# Altium schematic symbol library Connectors.SchLib: 75 symbols (part 1 of 3)
Pins are listed as number, name and electrical type; pins without a type are passive.

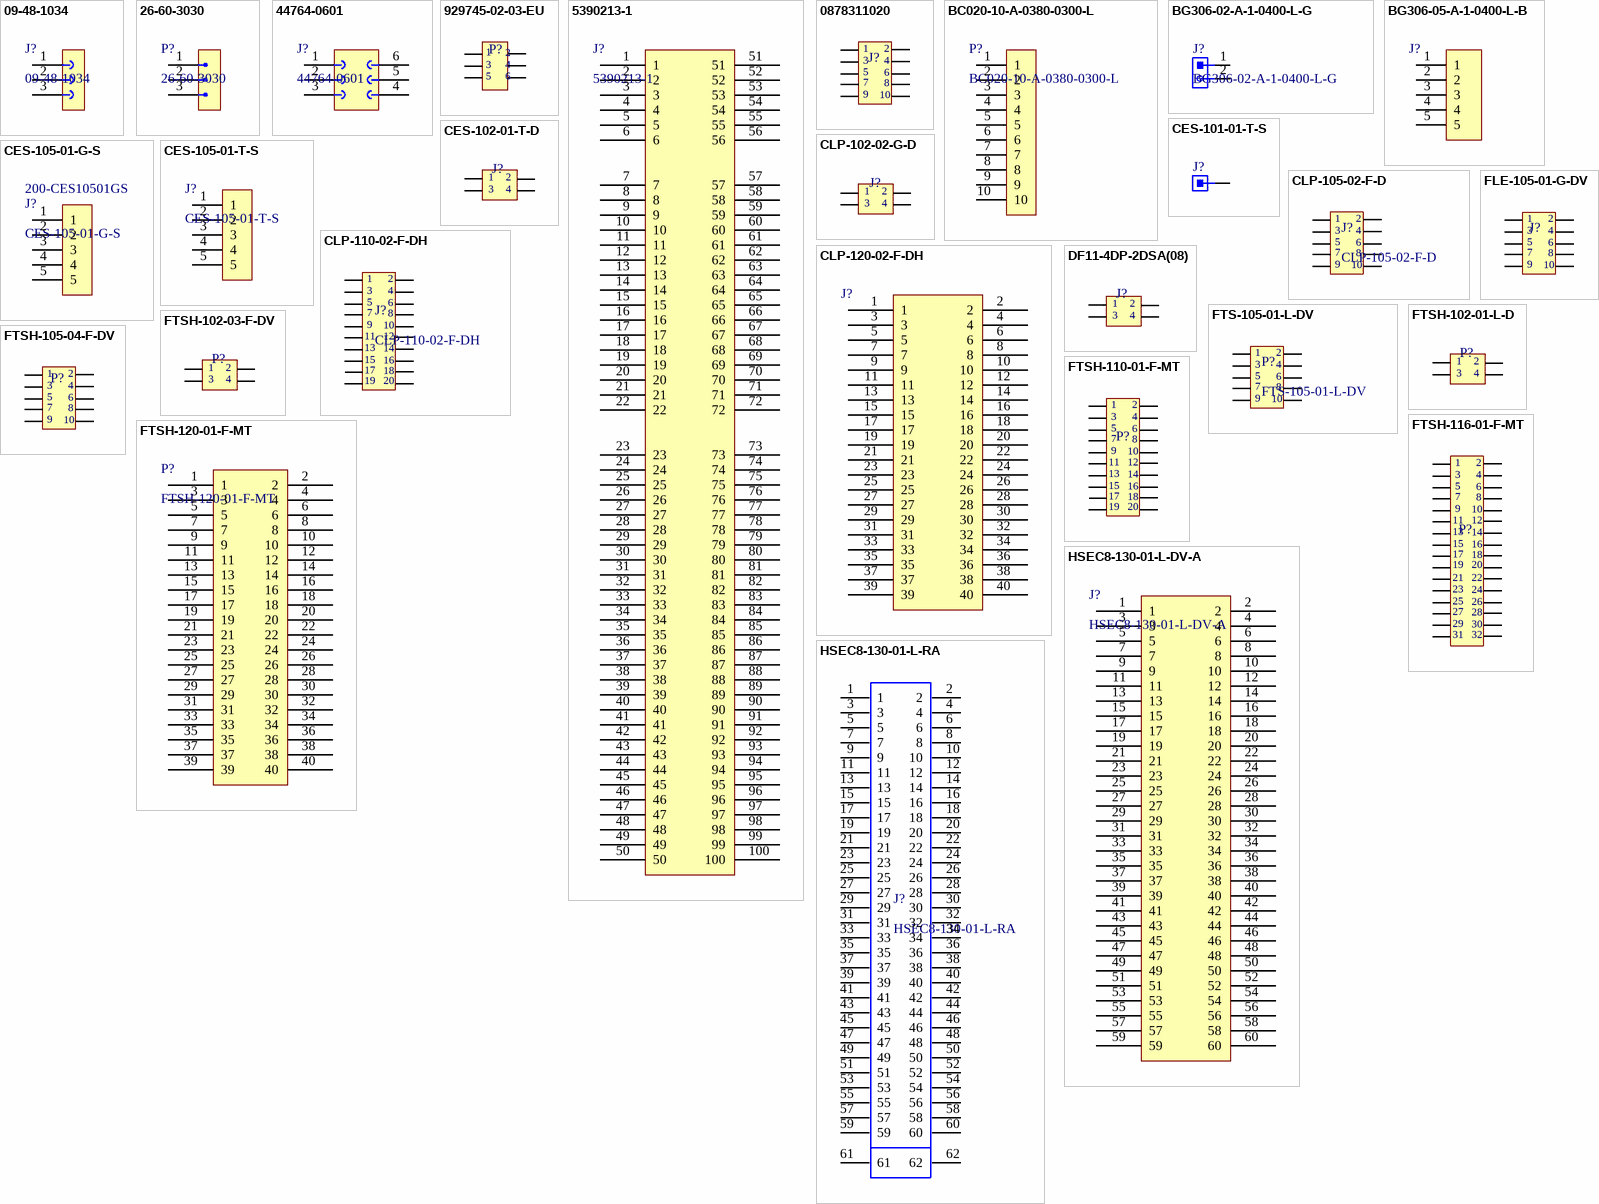
[diagram p0: symbols 09-48-1034 to HSEC8-130-01-L-RA]

## 09-48-1034
designator J?
GLOVE, POLYAMIDE, L/FREE, PU, SIZE 6 - More Details; Manufacturer: Molex; Current Rating: 5A; Voltage Rating: 250V; Contact Resistance: 6mR; Connector Type: Receptacle,Socket; Number of Positions: 3; Gender: Female; Pitch: 3.96mm; Glow Wire Compliant: Non-compliant; Manufacturer Part Number: 09-48-1034; RoHS: Yes; Category: Headers and Wire Housings; Stock 1: 2; Pricing 1: 1=0,87000, 10=0,76500, 100=0,66000, 500=0,54000, 1000=0,48000, 5000=0,42000, 10000=0,39900 (USD); Mount: Through Hole; Color: White; Contact Material: Bronze; Contact Plating: Tin; Housing Material: Polyester; Housing Color: White; Min Operating Temperature: 0°C; Max Operating Temperature: 75°C; Package Quantity: 1; Number of Rows: 1; Fastening Type: Ramp; Packaging: Bulk; Contact Gender: Female; Orientation: Right Angle; Termination: Solder; Number of Contacts: 3; Lead Free: Lead Free; Flammability Rating: UL94 V-0; Halogen Free: Not Halogen Free; ComponentLink1URL: https://datasheet.ciiva.com/745/009481024-sd-745871.pdf?src-supplier=Digi-Key; ComponentLink1Description: https://datasheet.ciiva.com/745/009481024-sd-745871.pdf?src-supplier=Digi-Key; ComponentLink2URL: https://datasheet.ciiva.com/5150/0009481034-pcb-receptacles-156434-5150628.pdf?src-supplier=Mouser; ComponentLink2Description: https://datasheet.ciiva.com/5150/0009481034-pcb-receptacles-156434-5150628.pdf?src-supplier=Mouser; ComponentLink3URL: https://datasheet.ciiva.com/30159/144440009481034-pcb-receptacles-30159914.pdf?src-supplier=Onlinecomponents.com; ComponentLink3Description: https://datasheet.ciiva.com/30159/144440009481034-pcb-receptacles-30159914.pdf?src-supplier=Onlinecomponents.com; Supplier 1: Digi-Key; Supplier 2: Newark; Supplier 3: Newark; Supplier 4: Mouser; Supplier 5: Farnell; Supplier Part Number 5: 3049434; Supplier Part Number 4: 538-09-48-1034; Supplier Part Number 3: 99AC9852; Supplier Part Number 2: 24M9928; Supplier Part Number 1: 23-0009481034-ND
footprint 09-48-1034 (KK 396 PC Board Connector, Right Angle, Polyester Connector, 5.00µm Tin (Sn), 3 Circuits)
pins: 1 (power), 2 (power), 3 (power)

## 26-60-3030
designator P?
Conn Unshrouded Header HDR 3 POS 3.96mm Solder RA Thru-Hole KK® Bag; Manufacturer: Molex; Number of Contacts: 3; Gender: Male; Contact Resistance: 6mR; Connector Type: Male Pin; Manufacturer Part Number: 26-60-3030; RoHS: Yes; Category: Headers and Wire Housings; Stock 1: 242; Pricing 1: 1=0,47000, 10=0,43800, 100=0,33560, 500=0,29180, 1000=0,24074, 5000=0,21156, 10000=0,19697 (USD); Mount: Through Hole; Contact Plating: Tin,Copper; Color: White; Contact Material: Brass; Housing Color: Natural; Housing Material: Polyester; Min Operating Temperature: 0°C; Max Operating Temperature: 75°C; Number of Rows: 1; Termination: Solder; Packaging: Bulk; Package Quantity: 8000; Number of Positions: 3; Orientation: Right Angle; Length: 11.73mm; Pitch: 3.96mm; Contact Mating Length: 0.585inch; Depth: 18.03mm; ComponentLink1URL: https://datasheet.ciiva.com/6839/026603038-sd-6839635.pdf?src-supplier=Digi-Key; ComponentLink1Description: https://datasheet.ciiva.com/6839/026603038-sd-6839635.pdf?src-supplier=Digi-Key; ComponentLink2URL: https://datasheet.ciiva.com/16468/0026603030-pcb-headers-16468946.pdf?src-supplier=Avnet+Asia; ComponentLink2Description: https://datasheet.ciiva.com/16468/0026603030-pcb-headers-16468946.pdf?src-supplier=Avnet+Asia; ComponentLink3URL: https://datasheet.ciiva.com/26921/getdatasheetpartid-754778-26921817.pdf?src-supplier=Verical; ComponentLink3Description: https://datasheet.ciiva.com/26921/getdatasheetpartid-754778-26921817.pdf?src-supplier=Verical; ComponentLink4URL: https://datasheet.ciiva.com/10089/0026603030-pcb-headers-10089991.pdf?src-supplier=Avnet; ComponentLink4Description: https://datasheet.ciiva.com/10089/0026603030-pcb-headers-10089991.pdf?src-supplier=Avnet; ComponentLink5URL: https://datasheet.ciiva.com/10028/0026603030-pcb-headers-10028122.pdf?src-supplier=Avnet; ComponentLink5Description: https://datasheet.ciiva.com/10028/0026603030-pcb-headers-10028122.pdf?src-supplier=Avnet; Supplier 1: Digi-Key; Supplier 2: Arrow; Supplier 3: Mouser; Supplier Part Number 3: 538-26-60-3030; Supplier Part Number 2: 26-60-3030; Supplier Part Number 1: WM13466-ND
footprint 26-60-3030 (KK 396 Header, Right-Angle, without Peg, 3 Circuits, Tin (Sn) Plating)
pins: 1 (power), 2 (power), 3 (power)

## 44764-0601
designator J?
MOLEX         44764-0601            PLUG & SOCKET CONNECTOR, RECEPTACLE, 6POS, 3MM; Number of Contacts: 6; Contact Resistance: 100mR; Max Voltage Rating (AC): 250V; Current Rating: 5A; Voltage Rating: 600V; Glow Wire Compliant: Non-compliant; Manufacturer: Molex; Manufacturer Part Number: 44764-0601; RoHS: Yes; Category: Headers and Wire Housings; Stock 1: 564; Pricing 1: 1=2,72000, 10=2,61300, 100=2,17720, 500=1,85062, 1000=1,57847, 5000=1,41518 (USD); Mount: Through Hole; Color: Black; Housing Color: Black; Housing Material: Polyamide; Contact Plating: Tin; Contact Material: Bronze; Min Operating Temperature: -40°C; Max Operating Temperature: 105°C; Termination: Through Hole; Number of Rows: 2; Number of Positions: 6; Orientation: Right Angle; Packaging: Tray; Gender: Receptacle; Number of Circuits: 6; Package Quantity: 1360; Pitch: 3mm; Row Spacing: 3mm; Radiation Hardening: No; Halogen Free: Low Halogen; Lead Free: Lead Free; ComponentLink1URL: https://datasheet.ciiva.com/10086/0447640601-pcb-receptacles-10086368.pdf?src-supplier=Avnet; ComponentLink1Description: https://datasheet.ciiva.com/10086/0447640601-pcb-receptacles-10086368.pdf?src-supplier=Avnet; ComponentLink2URL: https://datasheet.ciiva.com/36179/104790447640601-pcb-receptacles-36179666.pdf?src-supplier=Onlinecomponents.com; ComponentLink2Description: https://datasheet.ciiva.com/36179/104790447640601-pcb-receptacles-36179666.pdf?src-supplier=Onlinecomponents.com; ComponentLink3URL: https://datasheet.ciiva.com/5154/0447640601-pcb-receptacles-146016-5154396.pdf?src-supplier=Mouser; ComponentLink3Description: https://datasheet.ciiva.com/5154/0447640601-pcb-receptacles-146016-5154396.pdf?src-supplier=Mouser; Supplier 1: Digi-Key; Supplier 2: Newark; Supplier 3: Mouser; Supplier 4: Farnell; Supplier Part Number 4: 3051467; Supplier Part Number 3: 538-44764-0601; Supplier Part Number 2: 01AH8459; Supplier Part Number 1: WM1982-ND
footprint 447640601 (Micro-Fit BMI Receptacle Header, Dual Row, Right-Angle, with Press-fit Plastic Pegs, 2.54µm Tin (Sn), 6 Circuits)
pins: 1 (power), 2 (power), 3 (power), 4 (power), 5 (power), 6 (power)

## 929745-02-03-EU
designator P?  (value not drawn)
Headers & Wire Housings 6/PS/2R/RA.318-.405 ALL 10U/ROHS; Manufacturer: 3M; Connector Type: Male Pin; Number of Positions: 6; Gender: Male; Pitch: 0.1inch; Supplier 1: Digi-Key; Manufacturer Part Number: 929745-02-03-EU; RoHS: Yes; Category: Headers and Wire Housings; Stock 1: 298; Pricing 1: 1=1.14000, 10=1.00000, 25=0.94080, 50=0.90160, 100=0.86240, 250=0.78400, 500=0.70560 (USD); Mount: Through Hole; Contact Plating: Gold; Color: Black; Number of Rows: 2; Packaging: Bulk; Termination: Solder; Package Quantity: 1000; Row Spacing: 0.1inch; Contact Mating Length: 0.318inch; ComponentLink1URL: https://datasheet.ciiva.com/13596/ts0769-13596999.pdf?src-supplier=Mouser; ComponentLink1Description: https://datasheet.ciiva.com/13596/ts0769-13596999.pdf?src-supplier=Mouser; ComponentLink2URL: https://datasheet.ciiva.com/6825/ts0769-6825433.pdf?src-supplier=Digi-Key; ComponentLink2Description: https://datasheet.ciiva.com/6825/ts0769-6825433.pdf?src-supplier=Digi-Key; Supplier Part Number 1: 3M156383-06-ND
footprint 929745-02-03-EU
pins: 1, 2, 3, 4, 5, 6

## 5390213-1
designator J?
100 Position DIMM DRAM Socket Through Hole; Centerline_Pitch: 1.27 mm[.05 in]; MF: TE Connectivity; Number_of_Positions: 100; SnapEDA_Link: https://www.snapeda.com/parts/5390213-1/TE%20Connectivity%20AMP%20Connectors/view-part/781316/?ref=snap; MP: 5390213-1; TE_purchase_URL: https://www.te.com/usa-en/product-5390213-1.html?te_bu=Cor&te_type=disp&te_campaign=seda_glo_cor-seda-global-disp-prtnr-fy19-seda-model-bom-cta_sma-317_1&elqCampaignId=32493; Availability: Unavailable; EU_RoHS_Compliance: Compliant; Price: None; Product_Type: Socket; Package: None; Value: *; Supplier 1: Newark; Supplier 2: Digi-Key; Supplier 3: Mouser; Supplier Part Number 1: 42K7163; Supplier Part Number 2: A121375-ND; Supplier Part Number 3: 571-5390213-1
footprint TE_5390213-1
pins: 1 (power), 2 (power), 3 (power), 4 (power), 5 (power), 6 (power), 7 (power), 8 (power), 9 (power), 10 (power), 11 (power), 12 (power), 13 (power), 14 (power), 15 (power), 16 (power), 17 (power), 18 (power), 19 (power), 20 (power), 21 (power), 22 (power), 23 (power), 24 (power), 25 (power), 26 (power), 27 (power), 28 (power), 29 (power), 30 (power), 31 (power), 32 (power), 33 (power), 34 (power), 35 (power), 36 (power), 37 (power), 38 (power), 39 (power), 40 (power), 41 (power), 42 (power), 43 (power), 44 (power), 45 (power), 46 (power), 47 (power), 48 (power), 49 (power), 50 (power), 51 (power), 52 (power), 53 (power), 54 (power), 55 (power), 56 (power), 57 (power), 58 (power), 59 (power), 60 (power), 61 (power), 62 (power), 63 (power), 64 (power), 65 (power), 66 (power), 67 (power), 68 (power), 69 (power), 70 (power), 71 (power), 72 (power), 73 (power), 74 (power), 75 (power), 76 (power), 77 (power), 78 (power), 79 (power), 80 (power), 81 (power), 82 (power), 83 (power), 84 (power), 85 (power), 86 (power), 87 (power), 88 (power), 89 (power), 90 (power), 91 (power), 92 (power), 93 (power), 94 (power), 95 (power), 96 (power), 97 (power), 98 (power), 99 (power), 100 (power)

## 0878311020
designator J?  (value not drawn)
Conn Shrouded Header HDR 10 POS 2mm Solder ST Thru-Hole Milli-Grid™ Tube; Manufacturer: Molex; Number of Positions: 10; Connector Type: Male Pin; Row Spacing: 0.079inch; Supplier 1: Digi-Key; Manufacturer Part Number: 0878311020; RoHS: Yes; Category: Headers and Wire Housings; Stock 1: 7937; Pricing 1: 1=1.65000, 10=1.50100, 100=1.28650, 500=1.07206, 1000=0.91890, 5000=0.81476, 10000=0.79638 (USD); Mount: Through Hole; Contact Plating: Gold; Contact Material: Bronze; Color: Black; Housing Material: Nylon; Housing Color: Black; Min Operating Temperature: -55°C; Max Operating Temperature: 105°C; Termination: Solder; Number of Contacts: 10; Number of Rows: 2; Packaging: Rail/Tube; Orientation: Straight; Length: 12.65mm; Pitch: 2mm; Contact Mating Length: 0.141inch; Depth: 6.3mm; Radiation Hardening: No; ComponentLink1URL: https://datasheet.ciiva.com/6814/878311620-sd-6814006.pdf?src-supplier=Digi-Key; ComponentLink1Description: https://datasheet.ciiva.com/6814/878311620-sd-6814006.pdf?src-supplier=Digi-Key; Supplier Part Number 1: WM18560-ND
footprint 0878311020
pins: 1, 2, 3, 4, 5, 6, 7, 8, 9, 10

## BC020-10-A-0380-0300-L
designator P?
BOARD-BOARD CONNECTOR, HEADER, 10WAY, 1ROW; Product Range:BC020 Series; Contact Termination Type:Through Hole; Gender:Header; No. of Contacts:10; Pitch Spacing:1mm; Contact Plating:Gold Plated Contacts; Contact Material:Copper Alloy ;RoHS Compliant: Yes; Manufacturer: Global Connector Technology; Gender: Male; Number of Contacts: 10; Manufacturer Part Number: BC020-10-A-0380-0300-L; RoHS: Yes; Category: Connectors; Stock 1: 1113; Pricing 1: 1=0,66300, 10=0,66300, 25=0,66300, 50=0,66300, 100=0,66300, 250=0,66300, 500=0,66300, 1000=0,66300 (USD); Mount: Through Hole; Contact Plating: Gold; Contact Material: Copper Alloy; Termination: Through Hole; Number of Rows: 1; REACH SVHC: No SVHC; ComponentLink1URL: http://www.farnell.com/datasheets/2342914.pdf?src-supplier=Farnell; ComponentLink1Description: http://www.farnell.com/datasheets/2342914.pdf?src-supplier=Farnell; ComponentLink2URL: http://www.farnell.com/datasheets/682675.pdf?src-supplier=Farnell; ComponentLink2Description: http://www.farnell.com/datasheets/682675.pdf?src-supplier=Farnell; ComponentLink3URL: http://www.farnell.com/datasheets/682675.pdf?src-supplier=Element14; ComponentLink3Description: http://www.farnell.com/datasheets/682675.pdf?src-supplier=Element14; Supplier 1: Newark; Supplier 2: Farnell; Supplier 3: Newark; Supplier Part Number 1: 67R6873; Supplier Part Number 2: 2577320; Supplier Part Number 3: 42AC9863
footprint BC020-10-A-0380-0300-L (Pin Header, Board-to-Board, 1 mm, 1 Rows, 10 Contacts, Through Hole Straight, BC020 Series)
pins: 1, 2, 3, 4, 5, 6, 7, 8, 9, 10

## BG306-02-A-1-0400-L-G
designator J?
GLOBAL CONNECTOR TECHNOLOGY         BG306-02-A-1-0400-L-G.             CONNECTOR, SOCKET, 2 POSITION, 1 ROW, 2.54MM; Gender: Receptacle; Number of Positions: 2; Manufacturer: Global Connector Technology; Manufacturer Part Number: BG306-02-A-1-0400-L-G; RoHS: Yes; Category: Connectors; Stock 1: 10; Pricing 1: 1=0,42900, 10=0,36500, 25=0,34300, 50=0,32200, 100=0,30000, 250=0,27900 (GBP); Mount: Surface Mount; Contact Plating: Gold; Contact Material: Bronze; Number of Rows: 1; Termination: SMD/SMT; Number of Contacts: 2; Pitch: 2.54mm; Lead Free: Lead Free; REACH SVHC: No SVHC; ComponentLink1URL: https://datasheet.ciiva.com/16288/bg306-02-a-1-0400-l-g-16288319.pdf?src-supplier=Future+Electronics; ComponentLink1Description: https://datasheet.ciiva.com/16288/bg306-02-a-1-0400-l-g-16288319.pdf?src-supplier=Future+Electronics; ComponentLink2URL: https://datasheet.ciiva.com/46431/1841849-46431772.pdf?src-supplier=Element14; ComponentLink2Description: https://datasheet.ciiva.com/46431/1841849-46431772.pdf?src-supplier=Element14; Supplier 1: Farnell; Supplier 2: Farnell; Supplier 3: Newark; Supplier Part Number 3: 07W3654; Supplier Part Number 2: 2443087; Supplier Part Number 1: 2147512; System: Connector
footprint BG306-02-A-1-0400-L-G (2 Position Receptacle Connector Surface Mount)
pins: 1, 2

## BG306-05-A-1-0400-L-B
designator J?  (value not drawn)
GLOBAL CONNECTOR TECHNOLOGY         BG306-05-A-1-0400-L-B.             CONNECTOR, SOCKET, 5POS, 1 ROW, 2.54MM; Number of Positions: 5; Gender: Receptacle; Supplier 1: Newark; Manufacturer: Global Connector Technology; Manufacturer Part Number: BG306-05-A-1-0400-L-B; RoHS: Yes; Category: Connectors; Pricing 1: 1200=0.54100 (USD); Mount: Surface Mount; Contact Plating: Gold; Contact Material: Bronze; Number of Rows: 1; Termination: SMD/SMT; Number of Contacts: 5; Pitch: 2.54mm; Lead Free: Lead Free; REACH SVHC: No SVHC; ComponentLink1URL: https://datasheet.ciiva.com/46431/1841849-46431775.pdf?src-supplier=Element14; ComponentLink1Description: https://datasheet.ciiva.com/46431/1841849-46431775.pdf?src-supplier=Element14; Supplier Part Number 1: 07W3657; Supplier 2: Digi-Key; Stock 2: 2132; Pricing 2: 1=1.170000, 10=1.032000, 100=0.890600, 500=0.728640 (USD); Supplier Part Number 2: 2073-BG306-05-A-1-0400-L-BCT-ND; Supplier 3: Digi-Key; Stock 3: 1200; Pricing 3: 1200=0.588800, 2400=0.533600, 6000=0.515200, 8400=0.489440, 12000=0.478400 (USD); Supplier Part Number 3: 2073-BG306-05-A-1-0400-L-BTR-ND
footprint BG306-05-A-1-0400-L-B
pins: 1, 2, 3, 4, 5

## CES-101-01-T-S
designator J?  (value not drawn)
Conn Socket Strip SKT 1 POS Solder ST Thru-Hole; Manufacturer: Samtec; Connector Type: Receptacle; Number of Positions: 1; System: Connector; Supplier 1: Digi-Key; Manufacturer Part Number: CES-101-01-T-S; RoHS: Yes; Category: Connectors; Stock 1: 3369; Pricing 1: 1=0.18000, 10=0.16800, 25=0.12520, 50=0.10720, 100=0.10370, 250=0.08940, 500=0.08582 (USD); Mount: Through Hole; Color: Black; Contact Plating: Tin; Contact Material: Bronze; Housing Material: Plastic; Housing Color: Black; Number of Rows: 1; Packaging: Bulk; Termination: Solder; Gender: Receptacle; Number of Contacts: 1; Package Quantity: 1; Length: 2.54mm; Height: 5.08mm; Width: 3.05mm; Radiation Hardening: No; Lead Free: Lead Free; REACH SVHC: No SVHC; ComponentLink1URL: https://datasheet.ciiva.com/413/ces-mkt-413326.pdf?src-supplier=Digi-Key; ComponentLink1Description: https://datasheet.ciiva.com/413/ces-mkt-413326.pdf?src-supplier=Digi-Key; Supplier Part Number 1: SAM1087-01-ND; Supplier 2: Mouser; Stock 2: 2680; Pricing 2: 1=0.18000, 10=0.11100, 100=0.08800, 1000=0.06700, 2500=0.06000, 10000=0.05300 (USD); Supplier Part Number 2: 200-CES10101TS; Supplier 3: Farnell; Pricing 3: 10=0.12800, 750=0.05720, 2500=0.05170, 5000=0.04640 (GBP); Supplier Part Number 3: 1803164
footprint CES-101-01-T-S
pins: 1

## CES-102-01-T-D
designator J?  (value not drawn)
CES - Samtec 2.54mm Closed Entry Low Profile Dual Row Socket Strip 4.57mm Profile; Number of Contacts: 4; Connector Type: Receptacle; Max Current Rating: 1A; Contact Resistance: 10mR; Max Voltage Rating (AC): 400V; Voltage Rating: 333V; Row Spacing: 0.1inch; Supplier 1: Digi-Key; Manufacturer: Samtec; Manufacturer Part Number: CES-102-01-T-D; RoHS: Yes; Category: Connectors; Stock 1: 1670; Pricing 1: 1=0.45000, 10=0.42700, 25=0.36560, 50=0.31080, 100=0.29870, 250=0.26824, 500=0.25604 (USD); Mount: Through Hole; Contact Plating: Tin; Housing Material: Polyester; Contact Material: Bronze; Color: Black; Housing Color: Black; Min Operating Temperature: -55°C; Max Operating Temperature: 105°C; Termination: Solder; Number of Rows: 2; Number of Positions: 4; Gender: Receptacle; Packaging: Bulk; Package Quantity: 1; Orientation: Straight; Current Rating: 1A; Length: 5.08mm; Pitch: 2.54mm; Depth: 5.59mm; Radiation Hardening: No; Lead Free: Lead Free; REACH SVHC: No SVHC; ComponentLink1URL: https://datasheet.ciiva.com/25617/0900766b8114b763-25617374.pdf?src-supplier=RSComponents; ComponentLink1Description: https://datasheet.ciiva.com/25617/0900766b8114b763-25617374.pdf?src-supplier=RSComponents; ComponentLink2URL: https://datasheet.ciiva.com/413/ces-dmkt-413366.pdf?src-supplier=Digi-Key; ComponentLink2Description: https://datasheet.ciiva.com/413/ces-dmkt-413366.pdf?src-supplier=Digi-Key; Supplier Part Number 1: SAM1086-02-ND; Supplier 2: Arrow; Stock 2: 1; Pricing 2: 1=0.42570, 10=0.30350, 100=0.25310, 1000=0.24710 (USD); Supplier 3: Mouser; Stock 3: 1759; Pricing 3: 1=0.47000, 10=0.32300, 100=0.26600, 1000=0.22200, 2500=0.19000, 10000=0.17100 (USD); Supplier Part Number 2: CES-102-01-T-D; Supplier Part Number 3: 200-CES10201TD
footprint CES-102-01-T-D
pins: 1, 2, 3, 4

## CES-105-01-G-S
designator J?  Supplier Part Number 1: 200-CES10501GS
SAMTEC   CES-105-01-G-S   Board-To-Board Connector, CES Series, Through Hole, Receptacle, 5 Contacts, 2.54 mm; Number of Contacts: 5; Max Current Rating: 1A; Contact Resistance: 10mR; Max Voltage Rating (AC): 333V; Pitch: 2.54mm; Supplier 1: Mouser; Manufacturer: Samtec; Manufacturer Part Number: CES-105-01-G-S; RoHS: Yes; Category: Headers and Wire Housings; Stock 1: 2084; Pricing 1: 1=1,36000, 10=1,10000, 100=0,98500, 250=0,92100, 500=0,79500, 1000=0,69300 (USD); Contact Plating: Gold; Housing Material: Polyester; Housing Color: Black; Contact Material: Bronze; Min Operating Temperature: -55°C; Max Operating Temperature: 125°C; Number of Rows: 1; Termination: Solder; Orientation: Straight; Packaging: Rail/Tube; Gender: Receptacle; Length: 12.7mm; Depth: 3.05mm; Radiation Hardening: No; REACH SVHC: No SVHC; ComponentLink1URL: http://components.arrow.com/part/dataview/0323_04286384?src-supplier=Arrow+Europe; ComponentLink1Description: http://components.arrow.com/part/dataview/0323_04286384?src-supplier=Arrow+Europe; ComponentLink2URL: http://components.arrow.com/part/dataview/2766982S8146916N1004?src-supplier=Arrow; ComponentLink2Description: http://components.arrow.com/part/dataview/2766982S8146916N1004?src-supplier=Arrow; ComponentLink3URL: http://www.farnell.com/datasheets/1796415.pdf?src-supplier=Farnell; ComponentLink3Description: http://www.farnell.com/datasheets/1796415.pdf?src-supplier=Farnell; ComponentLink4URL: http://suddendocs.samtec.com/prints/ces-s.pdf?src-supplier=Digi-Key; ComponentLink4Description: http://suddendocs.samtec.com/prints/ces-s.pdf?src-supplier=Digi-Key; ComponentLink5URL: http://www.samtec.com/documents/webfiles/pdf/CES.pdf?src-supplier=Avnet+Europe; ComponentLink5Description: http://www.samtec.com/documents/webfiles/pdf/CES.pdf?src-supplier=Avnet+Europe; ComponentLink6URL: http://www.samtec.com/documents/webfiles/pdf/CES.pdf?src-supplier=Avnet; ComponentLink6Description: http://www.samtec.com/documents/webfiles/pdf/CES.pdf?src-supplier=Avnet
pins: 1, 2, 3, 4, 5

## CES-105-01-T-S
designator J?
SAMTEC         CES-105-01-T-S             Board-To-Board Connector, CES Series, 5 Contacts, Receptacle, 2.54 mm, Through Hole, 1 Rows; Number of Contacts: 5; Contact Resistance: 10mR; Max Current Rating: 1A; Max Voltage Rating (AC): 400V; Pitch: 2.54mm; Manufacturer: Samtec; Manufacturer Part Number: CES-105-01-T-S; RoHS: Yes; Category: Connectors; Stock 1: 235; Pricing 1: 1=0,57000, 10=0,53600, 25=0,48280, 50=0,42920, 100=0,41120, 250=0,37548, 500=0,35760 (USD); Mount: Through Hole; Contact Plating: Tin; Housing Color: Black; Contact Material: Bronze; Color: Black; Housing Material: Polyester; Min Operating Temperature: -55°C; Max Operating Temperature: 105°C; Number of Rows: 1; Termination: Solder; Orientation: Straight; Packaging: Bulk; Package Quantity: 1; Connector Type: Receptacle; Number of Positions: 5; Gender: Receptacle; Length: 12.7mm; Depth: 3.05mm; Width: 3.05mm; Radiation Hardening: No; Lead Free: Lead Free; REACH SVHC: No SVHC; ComponentLink1URL: https://datasheet.ciiva.com/413/ces-mkt-413356.pdf?src-supplier=Digi-Key; ComponentLink1Description: https://datasheet.ciiva.com/413/ces-mkt-413356.pdf?src-supplier=Digi-Key; Supplier 1: Digi-Key; Supplier 2: Arrow; Supplier 3: Mouser; Supplier 4: Newark; Supplier Part Number 2: CES-105-01-T-S; Supplier Part Number 3: 200-CES10501TS; Supplier Part Number 4: 11P3506; Supplier Part Number 1: SAM1087-05-ND
footprint CES-105-01-T-S (Headers & Wire Housings .100" Closed Entry Low Profile Socket Strip - SAMTEC)
pins: 1, 2, 3, 4, 5

## CLP-102-02-G-D
designator J?  (value not drawn)
SAMTEC         CLP-102-02-G-D             Board-To-Board Connector, Vertical, CLP Series, 4 Contacts, Receptacle, 1.27 mm, Surface Mount; Number of Contacts: 4; Contact Resistance: 10mR; Max Current Rating: 1.75A; Pitch: 1.27mm; Row Spacing: 0.05inch; Supplier 1: Digi-Key; Manufacturer: Samtec; Manufacturer Part Number: CLP-102-02-G-D; RoHS: Yes; Category: Headers and Wire Housings; Stock 1: 2036; Pricing 1: 1=0.80000, 10=0.70400, 25=0.66240, 50=0.63480, 100=0.60720, 250=0.55200, 500=0.49680 (USD); Mount: Surface Mount; Contact Plating: Gold; Contact Material: Bronze; Housing Color: Black; Housing Material: Polymer; Color: Black; Min Operating Temperature: -55°C; Max Operating Temperature: 125°C; Number of Rows: 2; Termination: Solder; Packaging: Bulk; Orientation: Straight; Gender: Receptacle; Connector Type: Receptacle; Number of Positions: 4; Length: 2.97mm; Depth: 3.05mm; Radiation Hardening: No; REACH SVHC: No SVHC; Lead Free: Lead Free; ComponentLink1URL: https://datasheet.ciiva.com/413/clp-dmkt-413777.pdf?src-supplier=Digi-Key; ComponentLink1Description: https://datasheet.ciiva.com/413/clp-dmkt-413777.pdf?src-supplier=Digi-Key; ComponentLink2URL: https://datasheet.ciiva.com/9532/clp-sm-9532378.pdf?src-supplier=Avnet; ComponentLink2Description: https://datasheet.ciiva.com/9532/clp-sm-9532378.pdf?src-supplier=Avnet; ComponentLink3URL: https://datasheet.ciiva.com/16690/clp-sm-16690075.pdf?src-supplier=Avnet+Europe; ComponentLink3Description: https://datasheet.ciiva.com/16690/clp-sm-16690075.pdf?src-supplier=Avnet+Europe; Supplier Part Number 1: SAM1154-02-ND; Supplier 2: Arrow; Stock 2: 10; Pricing 2: 1=0.75640, 1=0.80000, 6250=0.67790, 12500=0.58820, 62500=0.50990, 125000=0.48130 (USD); Supplier Part Number 2: CLP-102-02-G-D; Supplier 3: Mouser; Stock 3: 752; Pricing 3: 1=1.38000, 10=1.12000, 100=0.99000, 250=0.93400, 500=0.80600, 1000=0.70200 (USD); Supplier Part Number 3: 200-CLP10202GD
footprint CLP-102-02-G-D
pins: 1, 2, 3, 4

## CLP-105-02-F-D
designator J?
Conn Socket Strip SKT 10 POS 1.27mm Solder ST SMD Tube; Manufacturer: Samtec; Number of Contacts: 10; Gender: Receptacle; Contact Resistance: 10mR; Max Current Rating: 1.75A; Row Spacing: 0.05inch; Supplier 1: Digi-Key; Manufacturer Part Number: CLP-105-02-F-D; RoHS: Yes; Category: Headers and Wire Housings; Stock 1: 1862; Pricing 1: 1=1.49000, 10=1.34900, 25=1.26680, 50=1.21180, 100=1.15670, 250=1.04652, 500=0.96390 (USD); Mount: Surface Mount; Contact Plating: Gold; Contact Material: Bronze; Housing Material: Polymer; Housing Color: Black; Color: Black; Min Operating Temperature: -55°C; Max Operating Temperature: 125°C; Number of Rows: 2; Packaging: Bulk; Termination: Solder; Orientation: Straight; Connector Type: Receptacle; Number of Positions: 10; Length: 6.78mm; Pitch: 1.27mm; Depth: 3.05mm; Width: 3.05mm; Radiation Hardening: No; Lead Free: Lead Free; REACH SVHC: No SVHC; ComponentLink1URL: https://datasheet.ciiva.com/5916/clp-sm-5916171.pdf?src-supplier=Farnell; ComponentLink1Description: https://datasheet.ciiva.com/5916/clp-sm-5916171.pdf?src-supplier=Farnell; ComponentLink2URL: https://datasheet.ciiva.com/413/clp-dmkt-413781.pdf?src-supplier=Digi-Key; ComponentLink2Description: https://datasheet.ciiva.com/413/clp-dmkt-413781.pdf?src-supplier=Digi-Key; ComponentLink3URL: https://datasheet.ciiva.com/16690/clp-sm-16690022.pdf?src-supplier=Avnet+Europe; ComponentLink3Description: https://datasheet.ciiva.com/16690/clp-sm-16690022.pdf?src-supplier=Avnet+Europe; ComponentLink4URL: https://datasheet.ciiva.com/9532/clp-sm-9532381.pdf?src-supplier=Avnet; ComponentLink4Description: https://datasheet.ciiva.com/9532/clp-sm-9532381.pdf?src-supplier=Avnet; Supplier Part Number 1: SAM1153-05-ND; Supplier 2: Mouser; Stock 2: 1991; Pricing 2: 1=1.78000, 10=1.45000, 100=1.29000, 250=1.21000, 500=1.04000, 1000=0.91000 (USD); Supplier Part Number 2: 200-CLP10502FD; Supplier 3: Arrow; Stock 3: 75; Pricing 3: 1=1.39160, 10=1.17190, 100=1.06330, 250=0.99320 (USD); Supplier Part Number 3: CLP-105-02-F-D
footprint CLP-105-02-F-D
pins: 1, 2, 3, 4, 5, 6, 7, 8, 9, 10

## CLP-110-02-F-DH
designator J?
Conn Socket Strip SKT 20 POS 1.27mm Solder RA SMD Automotive Tube; Manufacturer: Samtec; Number of Contacts: 20; Gender: Receptacle; Contact Resistance: 10mR; Supplier 1: Digi-Key; Manufacturer Part Number: CLP-110-02-F-DH; RoHS: Yes; Category: Headers and Wire Housings; Stock 1: 409; Pricing 1: 1=4.15000, 10=3.98400, 100=3.32000, 500=2.82200, 1000=2.40700 (USD); Contact Plating: Gold; Housing Color: Black; Contact Material: Bronze; Housing Material: Polymer; Min Operating Temperature: -55°C; Max Operating Temperature: 125°C; Number of Rows: 2; Termination: Solder; Packaging: Rail/Tube; Orientation: Right Angle; Length: 13.13mm; Pitch: 1.27mm; Depth: 4.57mm; Radiation Hardening: No; Lead Free: Lead Free; REACH SVHC: No SVHC; ComponentLink1URL: https://datasheet.ciiva.com/9939/clp-sm-9939580.pdf?src-supplier=Avnet; ComponentLink1Description: https://datasheet.ciiva.com/9939/clp-sm-9939580.pdf?src-supplier=Avnet; Supplier Part Number 1: SAM12489-ND; Supplier 2: Mouser; Stock 2: 24; Pricing 2: 1=4.15000, 10=3.48000, 100=3.03000, 250=2.62000, 500=2.42000, 1000=2.22000 (USD); Supplier Part Number 2: 200-CLP11002FDH; Supplier 3: Arrow; Supplier Part Number 3: CLP-110-02-F-DH
footprint CLP-110-02-F-DH
pins: 1, 1, 2, 3, 4, 5, 6, 7, 8, 9, 10, 12, 13, 14, 15, 16, 17, 18, 19, 20
text: 11

## CLP-120-02-F-DH
designator J?  (value not drawn)
SAMTEC         CLP-120-02-F-DH             Board-To-Board Connector, Vertical, CLP Series, 40 Contacts, Receptacle, 1.27 mm, Surface Mount; Number of Contacts: 40; Pitch: 1.27mm; Supplier 1: Mouser; Manufacturer: Samtec; Manufacturer Part Number: CLP-120-02-F-DH; RoHS: Yes; Category: Headers and Wire Housings; Stock 1: 30; Pricing 1: 1=6.74000, 10=5.62000, 100=4.78000, 250=4.26000, 500=3.93000, 1000=3.68000 (USD); Mount: Surface Mount; Contact Plating: Gold; Contact Material: Bronze; Termination: Solder; Number of Rows: 2; Gender: Receptacle; Lead Free: Lead Free; REACH SVHC: No SVHC; ComponentLink1URL: http://www.farnell.com/datasheets/1902564.pdf?src-supplier=Farnell; ComponentLink1Description: http://www.farnell.com/datasheets/1902564.pdf?src-supplier=Farnell; ComponentLink2URL: http://cloud.samtec.com/catalog_english/clp_sm.pdf?src-supplier=Avnet; ComponentLink2Description: http://cloud.samtec.com/catalog_english/clp_sm.pdf?src-supplier=Avnet; Supplier Part Number 1: 200-CLP12002FDH; Supplier 2: Digi-Key; Pricing 2: 1=6.46000 (USD); Supplier Part Number 2: CLP-120-02-F-DH-ND
footprint CLP-120-02-F-DH
pins: 1, 2, 3, 4, 5, 6, 7, 8, 9, 10, 11, 12, 13, 14, 15, 16, 17, 18, 19, 20, 21, 22, 23, 24, 25, 26, 27, 28, 29, 30, 31, 32, 33, 34, 35, 36, 37, 38, 39, 40

## DF11-4DP-2DSA(08)
designator J?  (value not drawn)
Headers & Wire Housings 2MM V PCB HEADER 4P DR THRU-HOLE TIN; Manufacturer: Hirose; Number of Contacts: 4; Gender: Male; Connector Type: Male Pin; Current Rating: 2A; Insulation Resistance: 1GR; Voltage Rating: 250V; Contact Resistance: 30mR; Row Spacing: 0.079inch; Supplier 1: Digi-Key; Manufacturer Part Number: DF11-4DP-2DSA(08); RoHS: Yes; Category: Headers and Wire Housings; Stock 1: 1353; Pricing 1: 1=0.23000, 10=0.21400, 100=0.14820, 500=0.12540, 1000=0.10260, 5000=0.09120, 10000=0.08265 (USD); Mount: Through Hole; Contact Plating: Tin; Housing Color: Black; Housing Material: Polyamide; Color: Black; Contact Material: Brass,Copper Alloy; Material: Polyamide; Min Operating Temperature: -30°C; Max Operating Temperature: 85°C; Termination: Solder; Number of Rows: 2; Number of Positions: 4; Packaging: Bag; Package Quantity: 100; Orientation: Straight; Max Current Rating: 2A; Fastening Type: Detent; Length: 6mm; Height: 6.6mm; Pitch: 2mm; Depth: 5mm; Contact Mating Length: 0.118inch; Radiation Hardening: No; Lead Free: Lead Free; ComponentLink1URL: https://datasheet.ciiva.com/11752/0900766b8080dda0-11752291.pdf?src-supplier=RSComponents; ComponentLink1Description: https://datasheet.ciiva.com/11752/0900766b8080dda0-11752291.pdf?src-supplier=RSComponents; ComponentLink2URL: https://datasheet.ciiva.com/26924/getdatasheetpartid-425474-26924966.pdf?src-supplier=Verical; ComponentLink2Description: https://datasheet.ciiva.com/26924/getdatasheetpartid-425474-26924966.pdf?src-supplier=Verical; ComponentLink3URL: https://datasheet.ciiva.com/5150/en-df11-20130411-5150870.pdf?src-supplier=Mouser; ComponentLink3Description: https://datasheet.ciiva.com/5150/en-df11-20130411-5150870.pdf?src-supplier=Mouser; Supplier Part Number 1: H122036-ND
footprint DF11-4DP-2DSA(08)
pins: 1, 2, 3, 4

## FLE-105-01-G-DV
designator J?  (value not drawn)
SAMTEC         FLE-105-01-G-DV            Board-To-Board Connector, FLE Series, Surface Mount, Receptacle, 10 Contacts, 1.27 mm; Number of Contacts: 10; Contact Resistance: 15mR; Connector Type: Receptacle,Socket; Current Rating: 1.75A; Pitch: 1.27mm; Row Spacing: 0.05inch; Supplier 1: Digi-Key; Manufacturer: Samtec; Manufacturer Part Number: FLE-105-01-G-DV; RoHS: Yes; Category: Headers and Wire Housings; Stock 1: 852; Pricing 1: 1=1.73000, 10=1.57200, 25=1.47560, 50=1.41160, 100=1.34740, 250=1.21904, 500=1.12280 (USD); Mount: Surface Mount; Contact Plating: Gold; Contact Material: Bronze; Housing Color: Black; Housing Material: Polymer; Color: Black; Min Operating Temperature: -55°C; Max Operating Temperature: 125°C; Number of Rows: 2; Termination: Solder; Packaging: Bulk; Orientation: Straight; Gender: Receptacle; Number of Positions: 10; Length: 6.46mm; Depth: 4.6mm; Radiation Hardening: No; REACH SVHC: No SVHC; Lead Free: Lead Free; ComponentLink1URL: https://datasheet.ciiva.com/747/fle-1xx-xx-xx-dv-x-mkt1-747008.pdf?src-supplier=Digi-Key; ComponentLink1Description: https://datasheet.ciiva.com/747/fle-1xx-xx-xx-dv-x-mkt1-747008.pdf?src-supplier=Digi-Key; ComponentLink2URL: https://datasheet.ciiva.com/7997/81303-7997533.pdf?src-supplier=Element14; ComponentLink2Description: https://datasheet.ciiva.com/7997/81303-7997533.pdf?src-supplier=Element14; Supplier Part Number 1: SAM1226-05-ND; Supplier 2: Arrow; Stock 2: 25; Pricing 2: 1=1.67500, 10=1.48600, 25=1.43500, 50=1.37590, 100=1.24900, 250=1.22800, 2500=1.22800, 5000=0.97660, 25000=0.69400, 50000=0.65450 (USD); Supplier Part Number 2: FLE-105-01-G-DV; Supplier 3: Mouser; Stock 3: 1377; Pricing 3: 1=1.87000, 10=1.52000, 100=1.35000, 250=1.27000, 500=1.09000, 1000=0.95500 (USD); Supplier Part Number 3: 200-FLE10501GDV
footprint FLE-105-01-G-DV
pins: 1, 2, 3, 4, 5, 6, 7, 8, 9, 10

## FTS-105-01-L-DV
designator P?
SAMTEC - FTS-105-01-L-DV - CONNECTOR, HEADER, SMT, 1.27MM, 10WAY; Number of Contacts: 10; Gender: Male; Max Current Rating: 1.75A; Connector Type: Male Pin; Row Spacing: 0.05inch; Supplier 1: Digi-Key; Manufacturer: Samtec; Manufacturer Part Number: FTS-105-01-L-DV; RoHS: Yes; Category: Headers and Wire Housings; Stock 1: 722; Pricing 1: 1=1.43000, 10=1.29900, 25=1.22000, 50=1.16680, 100=1.11380, 250=1.00776, 500=0.92820 (USD); Mount: Surface Mount; Contact Plating: Gold; Contact Material: Bronze; Housing Material: Polymer; Housing Color: Black; Color: Black; Min Operating Temperature: -55°C; Max Operating Temperature: 125°C; Termination: Solder; Number of Rows: 2; Packaging: Bulk; Orientation: Straight; Number of Positions: 10; Package Quantity: 1; Current Rating: 1.75A; Length: 6.35mm; Pitch: 1.27mm; Depth: 3.42mm; Contact Mating Length: 0.12inch; Radiation Hardening: No; REACH SVHC: No SVHC; Lead Free: Lead Free; ComponentLink1URL: https://datasheet.ciiva.com/25617/0900766b81142f3c-25617158.pdf?src-supplier=RSComponents; ComponentLink1Description: https://datasheet.ciiva.com/25617/0900766b81142f3c-25617158.pdf?src-supplier=RSComponents; ComponentLink2URL: https://datasheet.ciiva.com/22677/1731559-22677531.pdf?src-supplier=Element14; ComponentLink2Description: https://datasheet.ciiva.com/22677/1731559-22677531.pdf?src-supplier=Element14; ComponentLink3URL: https://datasheet.ciiva.com/6881/fts-1xx-xx-xx-xx-xx-mkt-6881558.pdf?src-supplier=Digi-Key; ComponentLink3Description: https://datasheet.ciiva.com/6881/fts-1xx-xx-xx-xx-xx-mkt-6881558.pdf?src-supplier=Digi-Key; ComponentLink4URL: https://datasheet.ciiva.com/26936/getdatasheetpartid-221786-26936875.pdf?src-supplier=Verical; ComponentLink4Description: https://datasheet.ciiva.com/26936/getdatasheetpartid-221786-26936875.pdf?src-supplier=Verical; Supplier Part Number 1: SAM1157-05-ND; Supplier 2: Arrow; Stock 2: 735; Pricing 2: 1=1.26910, 10=1.17450, 25=1.11530, 50=1.07420, 100=1.01550, 250=0.93650, 500=0.77200, 1=1.43000, 2500=1.07200, 5000=0.86820, 25000=0.63650, 50000=0.60100 (USD); Supplier Part Number 2: FTS-105-01-L-DV; Supplier 3: Avnet; Stock 3: 40; Pricing 3: 1=1.20064, 10=1.19126, 30=1.18188, 50=1.17250, 100=1.16312 (USD); Supplier Part Number 3: FTS-105-01-L-DV; Supplier 4: Mouser; Stock 4: 2935; Pricing 4: 1=1.72000, 10=1.40000, 100=1.24000, 250=1.16000, 500=1.00000, 1000=0.87600 (USD); Supplier Part Number 4: 200-FTS10501LDV; Supplier 5: Newark; Stock 5: 170; Pricing 5: 1=1.72000, 10=1.53000, 25=1.34000, 50=1.12000, 100=0.95600, 250=0.84800, 500=0.82900 (USD); Supplier Part Number 5: 11P4653
footprint FTS-105-01-L-DV
pins: 1, 2, 3, 4, 5, 6, 7, 8, 9, 10

## FTSH-102-01-L-D
designator P?  (value not drawn)
SAMTEC         FTSH-102-01-L-D             Board-To-Board Connector, FTSH Series, 4 Contacts, Header, 1.27 mm, Solder, 2 Rows; Number of Contacts: 4; Gender: Male; Pitch: 1.27mm; Supplier 1: Mouser; Manufacturer: Samtec; Manufacturer Part Number: FTSH-102-01-L-D; RoHS: Yes; Category: Connectors; Stock 1: 269; Pricing 1: 1=0.93000, 10=0.73800, 100=0.64200, 500=0.57700, 1000=0.51300, 2500=0.44900 (USD); Mount: Through Hole; Contact Plating: Gold; Contact Material: Bronze; Number of Rows: 2; Termination: Solder; Packaging: Bulk; Radiation Hardening: No; REACH SVHC: No SVHC; ComponentLink1URL: https://datasheet.ciiva.com/7422/1596288-7422606.pdf?src-supplier=Newark; ComponentLink1Description: https://datasheet.ciiva.com/7422/1596288-7422606.pdf?src-supplier=Newark; Supplier Part Number 1: 200-FTSH10201LD; Supplier 2: Digi-Key; Stock 2: 47; Pricing 2: 1=0.93000, 10=0.81900, 100=0.70620, 500=0.57780, 1000=0.51360, 5000=0.44940, 10000=0.42693 (USD); Supplier Part Number 2: SAM11244-ND; Supplier 3: Arrow; Stock 3: 10; Pricing 3: 1=0.63910, 10=0.57260, 100=0.53240, 500=0.48330, 1000=0.47560 (USD); Supplier Part Number 3: FTSH-102-01-L-D
footprint FTSH-102-01-L-D
pins: 1, 2, 3, 4

## FTSH-102-03-F-DV
designator P?  (value not drawn)
Conn Unshrouded Header HDR 4 POS 1.27mm Solder ST SMD; Manufacturer: Samtec; Number of Contacts: 4; Gender: Male; Supplier 1: Mouser; Manufacturer Part Number: FTSH-102-03-F-DV; RoHS: Yes; Category: Headers and Wire Housings; Stock 1: 71; Pricing 1: 1=0.88000, 10=0.69600, 100=0.60600, 500=0.54500, 1000=0.48400, 2500=0.42400 (USD); Contact Plating: Gold; Contact Material: Bronze; Housing Material: Polymer; Housing Color: Black; Min Operating Temperature: -55°C; Max Operating Temperature: 125°C; Termination: Solder; Packaging: Bulk; Number of Rows: 2; Orientation: Straight; Length: 2.54mm; Pitch: 1.27mm; Depth: 3.43mm; Radiation Hardening: No; Lead Free: Lead Free; ComponentLink1URL: https://datasheet.ciiva.com/10179/ftsh-mt-10179111.pdf?src-supplier=Avnet; ComponentLink1Description: https://datasheet.ciiva.com/10179/ftsh-mt-10179111.pdf?src-supplier=Avnet; Supplier Part Number 1: 200-FTSH10203FDV; Supplier 2: Digi-Key; Stock 2: 107; Pricing 2: 1=0.88000 (USD); Supplier Part Number 2: FTSH-102-03-F-DV-ND; Supplier 3: Avnet; Pricing 3: 1=0.72358, 10=0.68085, 30=0.66305, 50=0.63190, 100=0.60520 (USD); Supplier Part Number 3: FTSH-102-03-F-DV
footprint FTSH-102-03-F-D
pins: 1, 2, 3, 4

## FTSH-105-04-F-DV
designator P?  (value not drawn)
Conn Unshrouded Header HDR 10 POS 1.27mm Solder ST SMD Tube; Manufacturer: Samtec; Number of Contacts: 10; Current Rating: 1.75A; Connector Type: Male Pin; Row Spacing: 0.05inch; Supplier 1: Mouser; Manufacturer Part Number: FTSH-105-04-F-DV; RoHS: Yes; Category: Headers and Wire Housings; Stock 1: 274; Pricing 1: 1=1.47000, 10=1.20000, 100=1.06000, 250=0.99700, 500=0.86200, 1000=0.75000 (USD); Mount: Surface Mount; Contact Plating: Gold; Contact Material: Bronze; Housing Color: Black; Housing Material: Polymer; Color: Black; Min Operating Temperature: -55°C; Max Operating Temperature: 125°C; Termination: Solder; Number of Rows: 2; Packaging: Rail/Tube; Orientation: Straight; Number of Positions: 10; Package Quantity: 1; Length: 6.35mm; Pitch: 1.27mm; Depth: 5.84mm; Contact Mating Length: 0.15inch; Radiation Hardening: No; Lead Free: Lead Free; ComponentLink1URL: https://datasheet.ciiva.com/30493/0900766b80adfe36-30493163.pdf?src-supplier=RSComponents; ComponentLink1Description: https://datasheet.ciiva.com/30493/0900766b80adfe36-30493163.pdf?src-supplier=RSComponents; ComponentLink2URL: https://datasheet.ciiva.com/739/ftsh-1xx-xx-xxx-dv-xxx-mkt-739014.pdf?src-supplier=Digi-Key; ComponentLink2Description: https://datasheet.ciiva.com/739/ftsh-1xx-xx-xxx-dv-xxx-mkt-739014.pdf?src-supplier=Digi-Key; ComponentLink3URL: https://datasheet.ciiva.com/10245/ftsh-mt-10245020.pdf?src-supplier=Avnet; ComponentLink3Description: https://datasheet.ciiva.com/10245/ftsh-mt-10245020.pdf?src-supplier=Avnet; Supplier Part Number 1: 200-FTSH10504FDV; Supplier 2: Digi-Key; Stock 2: 954; Pricing 2: 1=1.47000, 10=1.33800, 100=1.14660, 500=0.95550, 1000=0.81900, 5000=0.72618, 10000=0.70980 (USD); Supplier Part Number 2: SAM10501-ND; Supplier 3: Farnell; Stock 3: 49; Pricing 3: 1=1.08000, 50=1.00000, 100=0.92600, 250=0.84900, 500=0.77200, 1000=0.66100 (GBP); Supplier Part Number 3: 2856440
footprint FTSH-105-04-F-DV
pins: 1, 2, 3, 4, 5, 6, 7, 8, 9, 10

## FTSH-110-01-F-MT
designator P?  (value not drawn)
Conn Unshrouded Header HDR 20 POS 1.27mm Solder RA Thru-Hole/SMD Tube; Manufacturer: Samtec; Gender: Male; Number of Contacts: 20; Supplier 1: Digi-Key; Manufacturer Part Number: FTSH-110-01-F-MT; RoHS: Yes; Category: Headers and Wire Housings; Stock 1: 62; Pricing 1: 1=3.25000 (USD); Mount: Through Hole; Contact Material: Bronze; Contact Plating: Gold; Number of Rows: 2; Termination: Solder; Pitch: 1.27mm; Lead Free: Lead Free; ComponentLink1URL: https://datasheet.ciiva.com/9933/ftsh-mt-9933047.pdf?src-supplier=Avnet; ComponentLink1Description: https://datasheet.ciiva.com/9933/ftsh-mt-9933047.pdf?src-supplier=Avnet; Supplier Part Number 1: FTSH-110-01-F-MT-ND; Supplier 2: Arrow; Stock 2: 19; Pricing 2: 1=2.23800 (USD); Supplier Part Number 2: FTSH-110-01-F-MT; Supplier 3: Mouser; Supplier Part Number 3: 200-FTSH11001FMT
footprint FTSH-110-01-F-MT
pins: 1, 1, 2, 3, 4, 5, 6, 7, 8, 9, 10, 12, 13, 14, 15, 16, 17, 18, 19, 20
text: 11

## FTSH-116-01-F-MT
designator P?  (value not drawn)
Conn Unshrouded Header HDR 32 POS 1.27mm Solder RA Thru-Hole/SMD Tube; Manufacturer: Samtec; Gender: Male; Number of Contacts: 32; Supplier 1: Digi-Key; Manufacturer Part Number: FTSH-116-01-F-MT; RoHS: Yes; Category: Headers and Wire Housings; Stock 1: 53; Pricing 1: 1=4.78000 (USD); Mount: Through Hole; Contact Material: Bronze; Contact Plating: Gold; Termination: Solder; Number of Rows: 2; Pitch: 1.27mm; Lead Free: Lead Free; ComponentLink1URL: http://cloud.samtec.com/catalog_english/ftsh_mt.pdf?src-supplier=Avnet; ComponentLink1Description: http://cloud.samtec.com/catalog_english/ftsh_mt.pdf?src-supplier=Avnet; Supplier Part Number 1: FTSH-116-01-F-MT-ND; Supplier 2: Avnet; Pricing 2: 1=4.56911, 10=4.29930, 30=4.18690, 50=3.99020, 100=3.82160 (USD); Supplier 3: Newark; Pricing 3: 1=4.78000, 10=4.40000, 25=4.03000, 50=3.86000, 100=3.67000, 250=3.21000, 500=3.12000 (USD); Supplier Part Number 2: FTSH-116-01-F-MT; Supplier Part Number 3: 01R6300
footprint FTSH-116-01-F-MT (CONN HEADER SMD R/A 32POS 1.27MM)
pins: 1, 1, 2, 3, 4, 5, 6, 7, 8, 9, 10, 12, 13, 14, 15, 16, 17, 18, 19, 20, 21, 22, 23, 24, 25, 26, 27, 28, 29, 30, 31, 32
text: 11

## FTSH-120-01-F-MT
designator P?
Conn Unshrouded Header HDR 40 POS 1.27mm Solder RA Thru-Hole/SMD Tube; Manufacturer: Samtec; Number of Contacts: 40; Gender: Male; System: Connector; Supplier 1: Digi-Key; Manufacturer Part Number: FTSH-120-01-F-MT; RoHS: Yes; Category: Headers and Wire Housings; Stock 1: 47; Pricing 1: 1=5.48000 (USD); Contact Plating: Gold; Contact Material: Bronze; Housing Material: Polymer; Housing Color: Black; Min Operating Temperature: -55°C; Max Operating Temperature: 125°C; Number of Rows: 2; Termination: Solder; Packaging: Rail/Tube; Orientation: Right Angle; Length: 25.4mm; Pitch: 1.27mm; Depth: 10.64mm; Radiation Hardening: No; Lead Free: Lead Free; ComponentLink1URL: https://datasheet.ciiva.com/16697/ftsh-mt-16697612.pdf?src-supplier=Avnet+Europe; ComponentLink1Description: https://datasheet.ciiva.com/16697/ftsh-mt-16697612.pdf?src-supplier=Avnet+Europe; Supplier Part Number 1: FTSH-120-01-F-MT-ND; Supplier 2: Avnet; Pricing 2: 1=5.23577, 10=4.92660, 30=4.79780, 50=4.57240, 100=4.37920 (USD); Supplier 3: Newark; Pricing 3: 1=5.48000, 10=5.04000, 25=4.62000, 50=4.43000, 100=4.21000, 250=3.68000, 500=3.57000 (USD); Supplier Part Number 2: FTSH-120-01-F-MT; Supplier Part Number 3: 01R7043
footprint FTSH-120-01-F-MT (Alojamientos de cables y cabecera .050" Micro Terminal Strip)
pins: 1, 2, 3, 4, 5, 6, 7, 8, 9, 10, 11, 12, 13, 14, 15, 16, 17, 18, 19, 20, 21, 22, 23, 24, 25, 26, 27, 28, 29, 30, 31, 32, 33, 34, 35, 36, 37, 38, 39, 40

## HSEC8-130-01-L-DV-A
designator J?
Standard Card Edge Connectors 0.80 mm Edge Rate High-Speed Edge Card Connector, Vertical; Manufacturer: Samtec; Number of Contacts: 60; Gender: Female; Current Rating: 3.1A; Pitch: 0.8mm; Manufacturer Part Number: HSEC8-130-01-L-DV-A; RoHS: Yes; Category: Card Edge Connectors; Stock 1: 491; Pricing 1: 1=4,35000, 10=4,17600, 25=3,82800, 50=3,65400, 100=3,48000, 250=3,04500, 500=2,95800, 1000=2,52300, 2500=2,34900 (USD); Mount: Surface Mount; Contact Plating: Gold; Contact Material: Copper; Housing Color: Black; Housing Material: Polymer; Min Operating Temperature: -55°C; Max Operating Temperature: 125°C; Termination: Solder; Number of Rows: 2; Packaging: Bulk; Orientation: Straight; Length: 28.6mm; Depth: 7.8mm; Width: 5.6mm; Radiation Hardening: No; ComponentLink1URL: https://datasheet.ciiva.com/25615/0900766b8114ca7f-25615848.pdf?src-supplier=RSComponents; ComponentLink1Description: https://datasheet.ciiva.com/25615/0900766b8114ca7f-25615848.pdf?src-supplier=RSComponents; ComponentLink2URL: https://datasheet.ciiva.com/16666/hsec8-dv-16666379.pdf?src-supplier=Avnet+Europe; ComponentLink2Description: https://datasheet.ciiva.com/16666/hsec8-dv-16666379.pdf?src-supplier=Avnet+Europe; Supplier 1: Digi-Key; Supplier 2: Mouser; Supplier 3: Farnell; Supplier 4: Newark; Supplier Part Number 4: 43W4470; Supplier Part Number 3: 3103224; Supplier Part Number 2: 200-HSEC813001LDVA; Supplier Part Number 1: SAM9080-ND
footprint HSEC8-130-01-L-DV-A
pins: 1 (power), 2 (power), 3 (power), 4 (power), 5 (power), 6 (power), 7 (power), 8 (power), 9 (power), 10 (power), 11 (power), 12 (power), 13 (power), 14 (power), 15 (power), 16 (power), 17 (power), 18 (power), 19 (power), 20 (power), 21 (power), 22 (power), 23 (power), 24 (power), 25 (power), 26 (power), 27 (power), 28 (power), 29 (power), 30 (power), 31 (power), 32 (power), 33 (power), 34 (power), 35 (power), 36 (power), 37 (power), 38 (power), 39 (power), 40 (power), 41 (power), 42 (power), 43 (power), 44 (power), 45 (power), 46 (power), 47 (power), 48 (power), 49 (power), 50 (power), 51 (power), 52 (power), 53 (power), 54 (power), 55 (power), 56 (power), 57 (power), 58 (power), 59 (power), 60 (power)

## HSEC8-130-01-L-RA
designator J?
SAMTEC - HSEC8-130-01-L-RA - CARD EDGE CONN, DUAL SIDE, 60POS, SMD; Number of Contacts: 60; Pitch: 0.8mm; Supplier 1: Digi-Key; Manufacturer: Samtec; Manufacturer Part Number: HSEC8-130-01-L-RA; RoHS: Yes; Category: Card Edge Connectors; Stock 1: 105; Pricing 1: 1=8.35000, 10=8.00400, 25=7.30800, 50=6.96000, 100=6.61200, 250=5.91600, 500=5.56800, 1000=4.87200, 2500=4.62840 (USD); Mount: Surface Mount; Contact Plating: Gold; Termination: Solder; Packaging: Bulk; Number of Rows: 2; Radiation Hardening: No; ComponentLink1URL: https://datasheet.ciiva.com/3101/hsec8-ra-3101230.pdf?src-supplier=Avnet; ComponentLink1Description: https://datasheet.ciiva.com/3101/hsec8-ra-3101230.pdf?src-supplier=Avnet; Supplier Part Number 1: SAM12638-ND
footprint HSEC8-130-01-L-RA (CONN EDGE DUAL FMALE 60POS 0.031)
pins: 1, 2, 3, 4, 5, 6, 7, 8, 9, 10, 11, 12, 13, 14, 15, 16, 17, 18, 19, 20, 21, 22, 23, 24, 25, 26, 27, 28, 29, 30, 31, 32, 33, 34, 35, 36, 37, 38, 39, 40, 41, 42, 43, 44, 45, 46, 47, 48, 49, 50, 51, 52, 53, 54, 55, 56, 57, 58, 59, 60, 61, 62

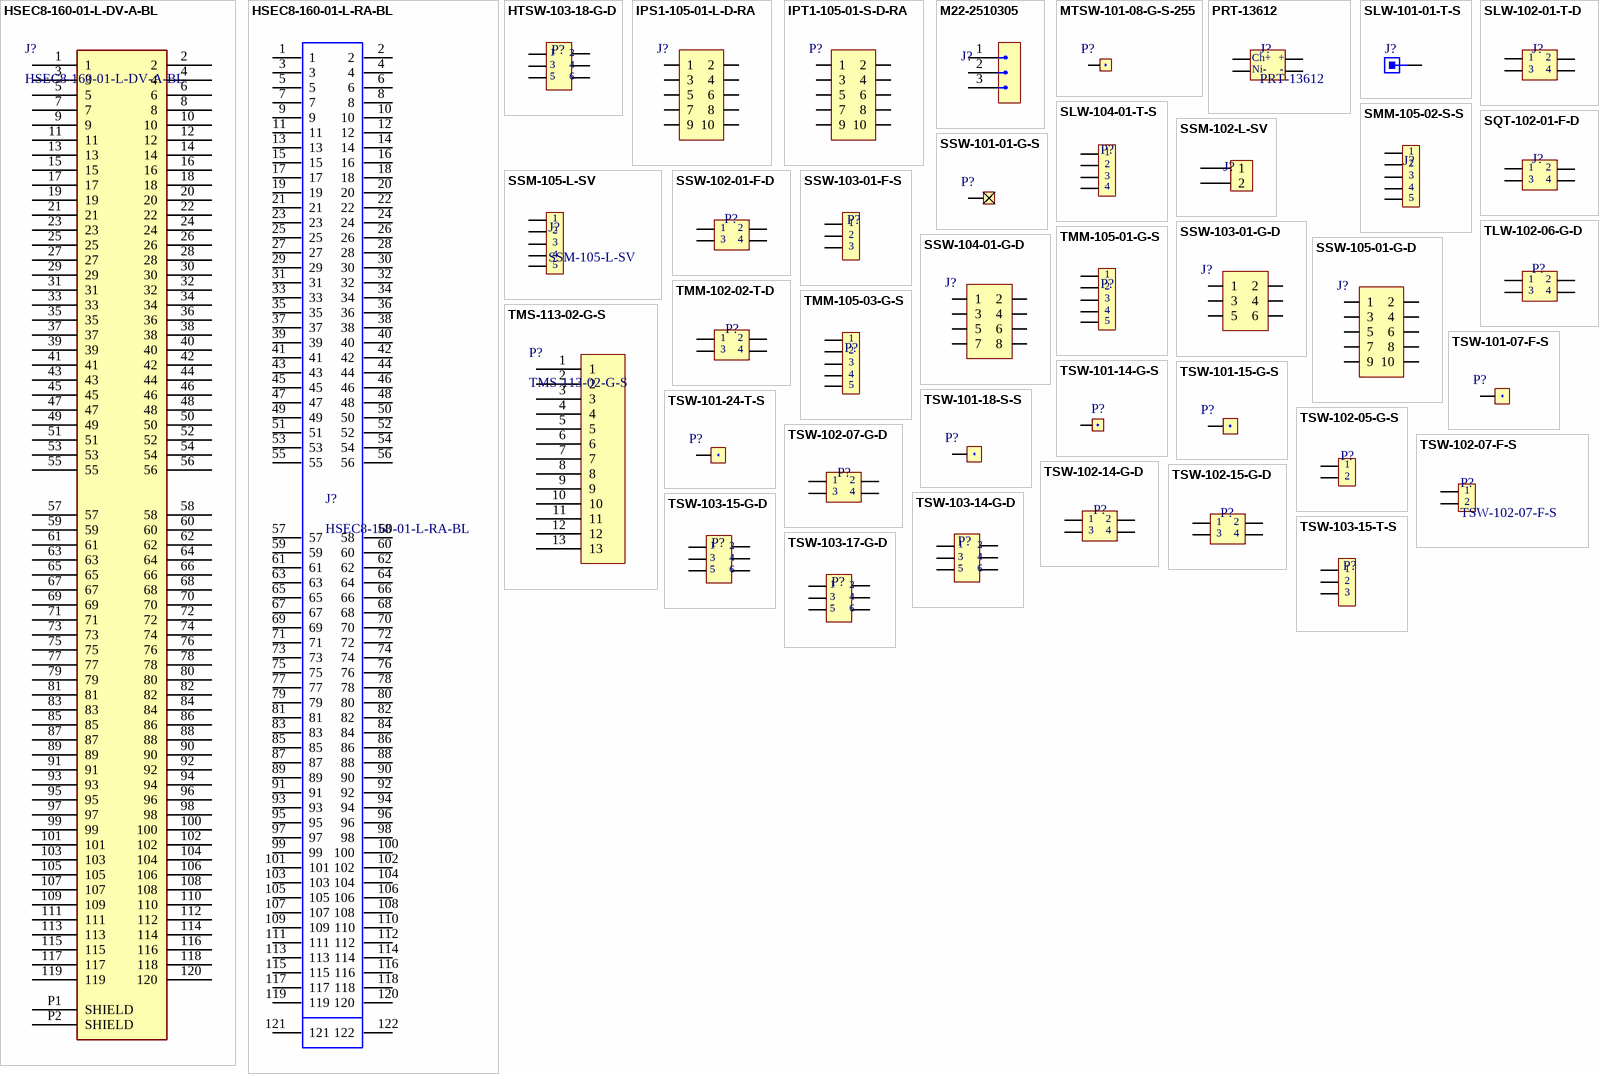
[diagram p1: symbols HSEC8-160-01-L-DV-A-BL to TSW-103-17-G-D]

## HSEC8-160-01-L-DV-A-BL
designator J?
Standard Card Edge Connectors 0.80 mm Edge Rate High-Speed Edge Card Connector, Vertical; Manufacturer: Samtec; Number of Contacts: 120; Pitch: 0.8mm; Manufacturer Part Number: HSEC8-160-01-L-DV-A-BL; RoHS: Yes; Category: Card Edge Connectors; Stock 1: 1044; Pricing 1: 1=8,23000, 10=7,88900, 25=7,20320, 50=6,86000, 100=6,51700, 250=5,83100, 500=5,48800, 1000=4,80200, 2500=4,56190 (USD); Mount: Surface Mount; Contact Plating: Gold; Number of Rows: 2; Packaging: Bulk; Termination: Solder; Radiation Hardening: No; ComponentLink1URL: http://www.farnell.com/datasheets/2260788.pdf?src-supplier=Farnell; ComponentLink1Description: http://www.farnell.com/datasheets/2260788.pdf?src-supplier=Farnell; ComponentLink2URL: http://www.farnell.com/datasheets/2581211.pdf?src-supplier=Farnell; ComponentLink2Description: http://www.farnell.com/datasheets/2581211.pdf?src-supplier=Farnell; ComponentLink3URL: http://suddendocs.samtec.com/catalog_english/hsec8_dv.pdf?src-supplier=Digi-Key; ComponentLink3Description: http://suddendocs.samtec.com/catalog_english/hsec8_dv.pdf?src-supplier=Digi-Key; ComponentLink4URL: http://www.samtec.com/ftppub/pdf/HSEC8_DV.pdf?src-supplier=Avnet; ComponentLink4Description: http://www.samtec.com/ftppub/pdf/HSEC8_DV.pdf?src-supplier=Avnet; ComponentLink5URL: http://www.farnell.com/datasheets/2581211.pdf?src-supplier=Element14; ComponentLink5Description: http://www.farnell.com/datasheets/2581211.pdf?src-supplier=Element14; ComponentLink6URL: http://www.farnell.com/datasheets/2581211.pdf?src-supplier=Newark; ComponentLink6Description: http://www.farnell.com/datasheets/2581211.pdf?src-supplier=Newark; Supplier 1: Digi-Key; Supplier 2: Arrow; Supplier 3: Mouser; Supplier Part Number 1: SAM9083-ND; Supplier Part Number 2: HSEC8-160-01-L-DV-A-BL; Supplier Part Number 3: 200-HSEC816001LDVABL
footprint HSEC8-160-01-L-DV-A-BL
pins: 1, 2, 3, 4, 5, 6, 7, 8, 9, 10, 11, 12, 13, 14, 15, 16, 17, 18, 19, 20, 21, 22, 23, 24, 25, 26, 27, 28, 29, 30, 31, 32, 33, 34, 35, 36, 37, 38, 39, 40, 41, 42, 43, 44, 45, 46, 47, 48, 49, 50, 51, 52, 53, 54, 55, 56, 57, 58, 59, 60, 61, 62, 63, 64, 65, 66, 67, 68, 69, 70, 71, 72, 73, 74, 75, 76, 77, 78, 79, 80, 81, 82, 83, 84, 85, 86, 87, 88, 89, 90, 91, 92, 93, 94, 95, 96, 97, 98, 99, 100, 101, 102, 103, 104, 105, 106, 107, 108, 109, 110, 111, 112, 113, 114, 115, 116, 117, 118, 119, 120, P1 SHIELD, P2 SHIELD